# Altium footprint library PcbLib1.PcbLib: 1 footprints
Each footprint in its own frame and in the unit in brackets; x right, y up, seen from the top. Pads: shape width x height; smd on the part's side, far side on the other; paste and mask are expansions set on the pad; w line width, h text height; cw(c..) or ccw(c..) is an arc to the next point about the centre after c.
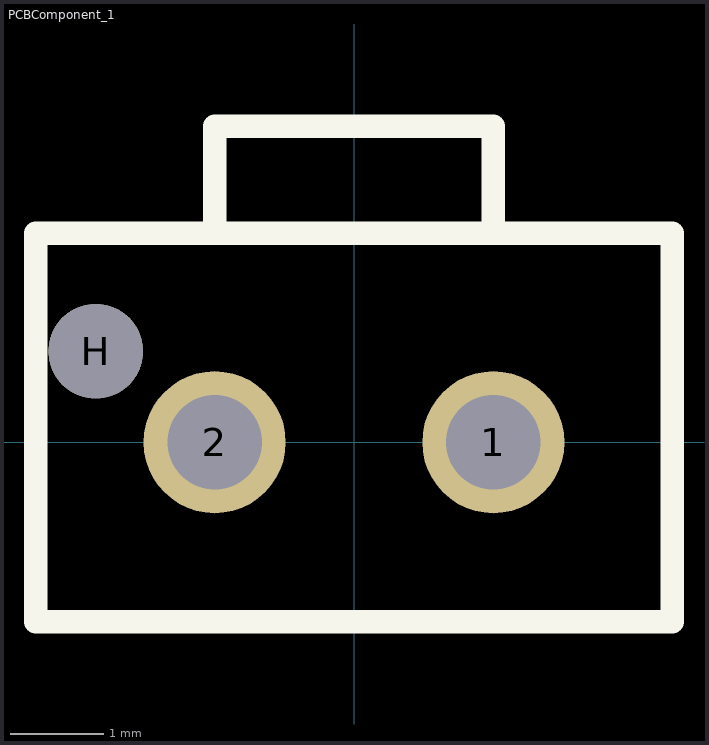
[diagram p0: the footprint, top view; thin cyan lines are the x and y axes]

## PCBComponent_1 [mm]
pads (3):
  round 1.53 hole 1.02: 1(1.5,0) 2(-1.5,0)
  round 1.02 hole 1.02 unplated: H(-2.78,0.98)
Top Overlay:
  lines w0.254: -3.425,-1.93 3.425,-1.93 3.425,2.25 -3.425,2.25 -3.425,-1.93 ; -1.5,2.25 1.5,2.25 1.5,3.4 -1.5,3.4 -1.5,2.25
3D body "2165713002.stp": height 9.91, standoff -3.18, extent -3.425,-1.93 3.425,3.4